# Altium footprint library PcbLib2.PcbLib: 9 footprints
Each footprint in its own frame and in the unit in brackets; x right, y up, seen from the top. Pads: shape width x height; smd on the part's side, far side on the other; paste and mask are expansions set on the pad; w line width, h text height; cw(c..) or ccw(c..) is an arc to the next point about the centre after c.
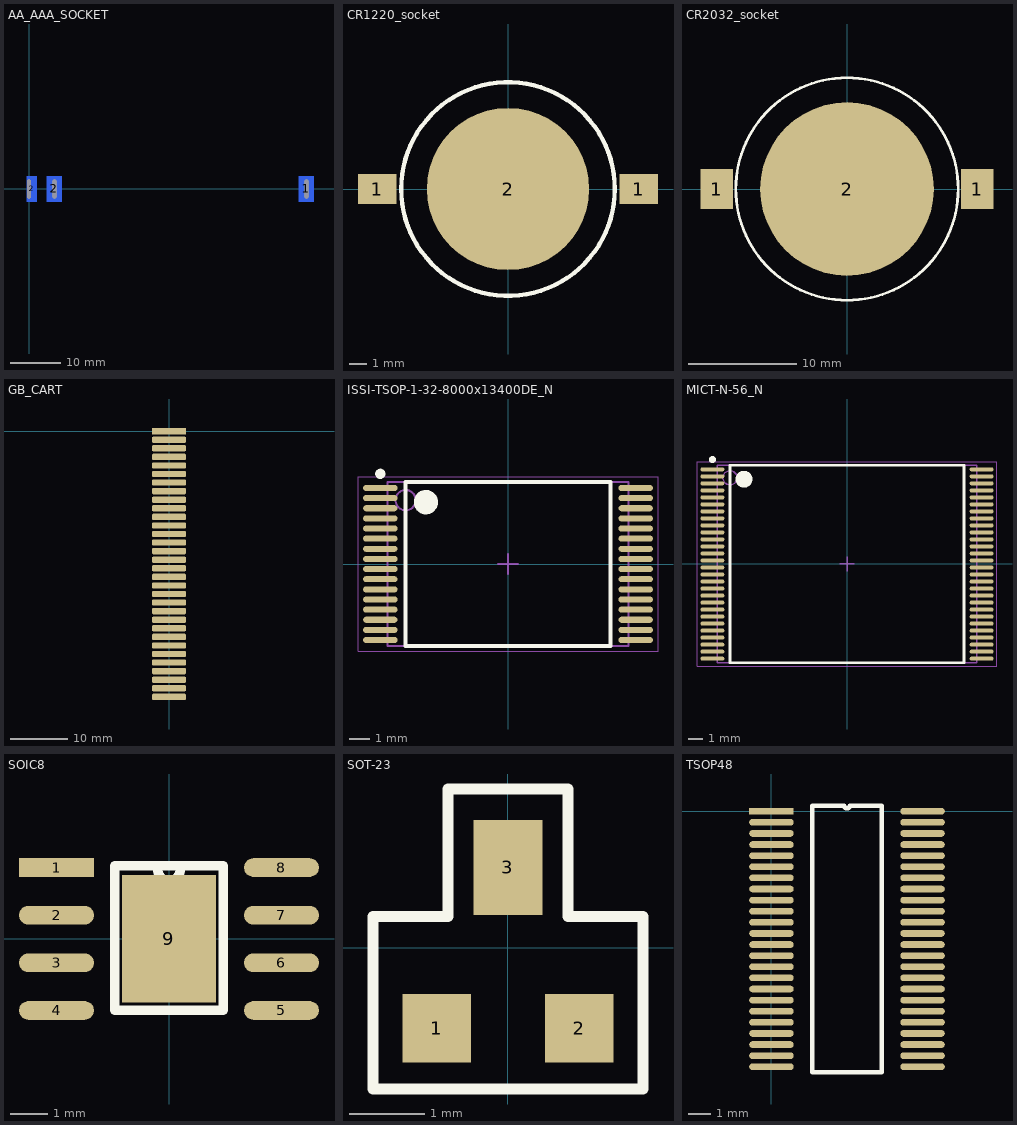
[diagram p0: the footprints below, top view; thin cyan lines are the x and y axes]

## AA_AAA_SOCKET [mm]
height 15
pads (3):
  rect 3x5 smd far side: 1(55,0) 2(5,0)
  rect 2x5 smd far side: 2(0.5,0)
via 5,0 diameter 0.8 hole 0.8
via 55,0 diameter 0.8 hole 0.8
via 55,-1.5 diameter 0.8 hole 0.8
via 55,1.5 diameter 0.8 hole 0.8
via 55,1.3 diameter 0.8 hole 0.8
via 55,1.1 diameter 0.8 hole 0.8
via 55,0.9 diameter 0.8 hole 0.8
via 55,0.7 diameter 0.8 hole 0.8
via 55,0.5 diameter 0.8 hole 0.8
via 55,0.3 diameter 0.8 hole 0.8
via 55,-0.2 diameter 0.8 hole 0.8
via 55,0.2 diameter 0.8 hole 0.8
via 55,-0.4 diameter 0.8 hole 0.8
via 55,-0.5 diameter 0.8 hole 0.8
via 55,-0.7 diameter 0.8 hole 0.8
via 55,-0.6 diameter 0.8 hole 0.8
via 55,-0.3 diameter 0.8 hole 0.8
via 55,-0.9 diameter 0.8 hole 0.8
via 55,-1.3 diameter 0.8 hole 0.8
via 55,-1.2 diameter 0.8 hole 0.8
via 55,-1.1 diameter 0.8 hole 0.8
via 55,-1.5 diameter 0.8 hole 0.8
via 55,-1.4 diameter 0.8 hole 0.8
via 55,-1 diameter 0.8 hole 0.8
via 55,-0.8 diameter 0.8 hole 0.8
via 55,-0.1 diameter 0.8 hole 0.8
via 55,0.1 diameter 0.8 hole 0.8
via 55,0.6 diameter 0.8 hole 0.8
via 55,0.4 diameter 0.8 hole 0.8
via 55,0.8 diameter 0.8 hole 0.8
via 55,1 diameter 0.8 hole 0.8
via 55,1.2 diameter 0.8 hole 0.8
via 55,1.4 diameter 0.8 hole 0.8
via 5,-1.5 diameter 0.8 hole 0.8
via 5,1.5 diameter 0.8 hole 0.8
via 5,1.3 diameter 0.8 hole 0.8
via 5,1.1 diameter 0.8 hole 0.8
via 5,0.9 diameter 0.8 hole 0.8
via 5,0.7 diameter 0.8 hole 0.8
via 5,0.5 diameter 0.8 hole 0.8
via 5,0.3 diameter 0.8 hole 0.8
via 5,-0.2 diameter 0.8 hole 0.8
via 5,0.2 diameter 0.8 hole 0.8
via 5,-0.4 diameter 0.8 hole 0.8
via 5,-0.5 diameter 0.8 hole 0.8
via 5,-0.7 diameter 0.8 hole 0.8
via 5,-0.6 diameter 0.8 hole 0.8
via 5,-0.3 diameter 0.8 hole 0.8
via 5,-0.9 diameter 0.8 hole 0.8
via 5,-1.3 diameter 0.8 hole 0.8
via 5,-1.2 diameter 0.8 hole 0.8
via 5,-1.1 diameter 0.8 hole 0.8
via 5,-1.5 diameter 0.8 hole 0.8
via 5,-1.4 diameter 0.8 hole 0.8
via 5,-1 diameter 0.8 hole 0.8
via 5,-0.8 diameter 0.8 hole 0.8
via 5,-0.1 diameter 0.8 hole 0.8
via 5,0.1 diameter 0.8 hole 0.8
via 5,0.6 diameter 0.8 hole 0.8
via 5,0.4 diameter 0.8 hole 0.8
via 5,0.8 diameter 0.8 hole 0.8
via 5,1 diameter 0.8 hole 0.8
via 5,1.2 diameter 0.8 hole 0.8
via 5,1.4 diameter 0.8 hole 0.8
via 0,1.4 diameter 0.8 hole 0.8
via 0,1.2 diameter 0.8 hole 0.8
via 0,1 diameter 0.8 hole 0.8
via 0,0.8 diameter 0.8 hole 0.8
via 0,0.4 diameter 0.8 hole 0.8
via 0,0.6 diameter 0.8 hole 0.8
via 0,0.1 diameter 0.8 hole 0.8
via 0,-0.1 diameter 0.8 hole 0.8
via 0,-0.8 diameter 0.8 hole 0.8
via 0,-1 diameter 0.8 hole 0.8
via 0,-1.4 diameter 0.8 hole 0.8
via 0,-1.5 diameter 0.8 hole 0.8
via 0,-1.1 diameter 0.8 hole 0.8
via 0,-1.2 diameter 0.8 hole 0.8
via 0,-1.3 diameter 0.8 hole 0.8
via 0,-0.9 diameter 0.8 hole 0.8
via 0,-0.3 diameter 0.8 hole 0.8
via 0,-0.6 diameter 0.8 hole 0.8
via 0,-0.7 diameter 0.8 hole 0.8
via 0,-0.5 diameter 0.8 hole 0.8
via 0,-0.4 diameter 0.8 hole 0.8
via 0,0.2 diameter 0.8 hole 0.8
via 0,-0.2 diameter 0.8 hole 0.8
via 0,0.3 diameter 0.8 hole 0.8
via 0,0.5 diameter 0.8 hole 0.8
via 0,0.7 diameter 0.8 hole 0.8
via 0,0.9 diameter 0.8 hole 0.8
via 0,1.1 diameter 0.8 hole 0.8
via 0,1.3 diameter 0.8 hole 0.8
via 0,1.5 diameter 0.8 hole 0.8
via 0,-1.5 diameter 0.8 hole 0.8
via 0,0 diameter 0.8 hole 0.8

## CR1220_socket [mm]
height 2.4
pads (3):
  rect 2.25x1.75 smd: 1(-7.65,0) 1(7.65,0)
  round 9.5 smd: 2(0,0)
Top Overlay:
  circle w0.254: c0,0 r6.25

## CR2032_socket [mm]
height 3.3
pads (3):
  rect 3x3.65 smd: 1(-12,0) 1(12,0)
  round 16 smd: 2(0,0)
Top Overlay:
  circle w0.254: c0,0 r10.25

## GB_CART [mm]
pads (32):
  rect 6x1.1 smd: 1(0,0)
  rrect50% 6x1.1 smd: 2(0,-1.5) 3(0,-3) 4(0,-4.5) 5(0,-6) 6(0,-7.5) 7(0,-9) 8(0,-10.5) 9(0,-12) 10(0,-13.5) 11(0,-15) 12(0,-16.5) 13(0,-18) 14(0,-19.5) 15(0,-21) 16(0,-22.5) 17(0,-24) 18(0,-25.5) 19(0,-27) 20(0,-28.5) 21(0,-30) 22(0,-31.5) 23(0,-33) 24(0,-34.5) 25(0,-36) 26(0,-37.5) 27(0,-39) 28(0,-40.5) 29(0,-42) 30(0,-43.5) 31(0,-45) 32(0,-46.5)

## ISSI-TSOP-1-32-8000x13400DE_N [mm] "SOP, 32-Leads, Body 11.9x8.1mm, Pitch 0.5mm, IPC Medium Density"
height 1.25
pads (32):
  oval 1.7x0.3 smd: 1(-6.3,3.75) 2(-6.3,3.25) 3(-6.3,2.75) 4(-6.3,2.25) 5(-6.3,1.75) 6(-6.3,1.25) 7(-6.3,0.75) 8(-6.3,0.25) 9(-6.3,-0.25) 10(-6.3,-0.75) 11(-6.3,-1.25) 12(-6.3,-1.75) 13(-6.3,-2.25) 14(-6.3,-2.75) 15(-6.3,-3.25) 16(-6.3,-3.75) 17(6.3,-3.75) 18(6.3,-3.25) 19(6.3,-2.75) 20(6.3,-2.25) 21(6.3,-1.75) 22(6.3,-1.25) 23(6.3,-0.75) 24(6.3,-0.25) 25(6.3,0.25) 26(6.3,0.75) 27(6.3,1.25) 28(6.3,1.75) 29(6.3,2.25) 30(6.3,2.75) 31(6.3,3.25) 32(6.3,3.75)
Top Overlay:
  circle w0.25: c-6.3,4.45 r0.125
  circle w0.6: c-4.05,3.05 r0.3
  lines w0.2: -5.05,-4.05 -5.05,4.05 5.05,4.05 5.05,-4.05 -5.05,-4.05
Mechanical 13:
  circle w0.1: c-5.05,3.15 r0.5
  lines w0.1: -5.95,-4.05 -5.95,4.05 5.95,4.05 5.95,-4.05 -5.95,-4.05
Mechanical 15:
  lines w0.05: -7.4,-4.3 -7.4,4.3 7.4,4.3 7.4,-4.3 -7.4,-4.3
  lines w0.1: -0.5,0 0.5,0 ; 0,-0.5 0,0.5
3D body: height 1.25, standoff 0.05, extent -5.95,-4.05 5.95,4.05

## MICT-N-56_N [mm] "SOP, 56-Leads, Body 18.4x14mm, Pitch 0.5mm, IPC Medium Density"
pads (56):
  oval 1.7x0.3 smd: 1(-9.6,6.75) 2(-9.6,6.25) 3(-9.6,5.75) 4(-9.6,5.25) 5(-9.6,4.75) 6(-9.6,4.25) 7(-9.6,3.75) 8(-9.6,3.25) 9(-9.6,2.75) 10(-9.6,2.25) 11(-9.6,1.75) 12(-9.6,1.25) 13(-9.6,0.75) 14(-9.6,0.25) 15(-9.6,-0.25) 16(-9.6,-0.75) 17(-9.6,-1.25) 18(-9.6,-1.75) 19(-9.6,-2.25) 20(-9.6,-2.75) 21(-9.6,-3.25) 22(-9.6,-3.75) 23(-9.6,-4.25) 24(-9.6,-4.75) 25(-9.6,-5.25) 26(-9.6,-5.75) 27(-9.6,-6.25) 28(-9.6,-6.75) 29(9.6,-6.75) 30(9.6,-6.25) 31(9.6,-5.75) 32(9.6,-5.25) 33(9.6,-4.75) 34(9.6,-4.25) 35(9.6,-3.75) 36(9.6,-3.25) 37(9.6,-2.75) 38(9.6,-2.25) 39(9.6,-1.75) 40(9.6,-1.25) 41(9.6,-0.75) 42(9.6,-0.25) 43(9.6,0.25) 44(9.6,0.75) 45(9.6,1.25) 46(9.6,1.75) 47(9.6,2.25) 48(9.6,2.75) 49(9.6,3.25) 50(9.6,3.75) 51(9.6,4.25) 52(9.6,4.75) 53(9.6,5.25) 54(9.6,5.75) 55(9.6,6.25) 56(9.6,6.75)
Top Overlay:
  circle w0.6: c-7.35,6.05 r0.3
  circle w0.25: c-9.6,7.45 r0.125
  lines w0.2: -8.35,-7.05 8.35,-7.05 8.35,7.05 -8.35,7.05 -8.35,-7.05
Mechanical 13:
  circle w0.1: c-8.35,6.15 r0.5
  lines w0.1: -9.25,-7.05 9.25,-7.05 9.25,7.05 -9.25,7.05 -9.25,-7.05
Mechanical 15:
  lines w0.05: -10.7,-7.3 10.7,-7.3 10.7,7.3 -10.7,7.3 -10.7,-7.3
  lines w0.1: -0.5,0 0.5,0 ; 0,-0.5 0,0.5
3D body: height 0.05, standoff 0, extent -9.25,-7.05 9.25,7.05

## SOIC8 [mm]
pads (9):
  rect 2x0.5 smd: 1(-3,1.9)
  oval 2x0.5 smd: 2(-3,0.63) 3(-3,-0.64) 4(-3,-1.91) 5(3,-1.91) 6(3,-0.64) 7(3,0.63) 8(3,1.9)
  rect 2.5x3.4 smd: 9(0,0)
Top Overlay:
  lines w0.254: -0.3,1.85 ccw(c0,1.85) 0.3,1.85 ; -1.45,-1.9 1.45,-1.9 1.45,1.95 -1.45,1.95 -1.45,-1.9

## SOT-23 [mil]
pads (3):
  rect 36x36 smd: 1(-37.4,-42.18) 2(37.4,-42.18)
  rect 36x50 smd: 3(0,42.18)
Top Overlay:
  lines w5.91: -70.87,-74.11 70.87,-74.11 70.87,16.44 31.5,16.44 31.5,83.37 -31.5,83.37 -31.5,16.44 -70.87,16.44 -70.87,-74.11
3D body "SOT-23.STEP": height 43, standoff 0, extent -55,-51 55,45

## TSOP48 [mm]
pads (48):
  rect 2x0.3 smd: 1(0,0)
  oval 2x0.3 smd: 2(0,-0.5) 3(0,-1) 4(0,-1.5) 5(0,-2) 6(0,-2.5) 7(0,-3) 8(0,-3.5) 9(0,-4) 10(0,-4.5) 11(0,-5) 12(0,-5.5) 13(0,-6) 14(0,-6.5) 15(0,-7) 16(0,-7.5) 17(0,-8) 18(0,-8.5) 19(0,-9) 20(0,-9.5) 21(0,-10) 22(0,-10.5) 23(0,-11) 24(0,-11.5) 25(6.8,-11.5) 26(6.8,-11) 27(6.8,-10.5) 28(6.8,-10) 29(6.8,-9.5) 30(6.8,-9) 31(6.8,-8.5) 32(6.8,-8) 33(6.8,-7.5) 34(6.8,-7) 35(6.8,-6.5) 36(6.8,-6) 37(6.8,-5.5) 38(6.8,-5) 39(6.8,-4.5) 40(6.8,-4) 41(6.8,-3.5) 42(6.8,-3) 43(6.8,-2.5) 44(6.8,-2) 45(6.8,-1.5) 46(6.8,-1) 47(6.8,-0.5) 48(6.8,0)
Top Overlay:
  lines w0.2: 1.835,-11.75 4.965,-11.75 4.965,0.25 3.525,0.25 cw(c3.4,0.25) 3.275,0.25 1.835,0.25 1.835,-11.75